# Altium schematic symbol library SCH - BUTTON - PANASONIC EVQPUC.SCHLIB: 1 symbol
Pins are listed as number, name and electrical type; pins without a type are passive.

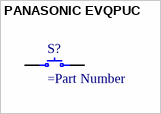
[diagram p0: symbol PANASONIC EVQPUC]

## PANASONIC EVQPUC
designator S?
pins: A, B